# EAGLE library part TEN5D (library Zoli2_2015-01-28)
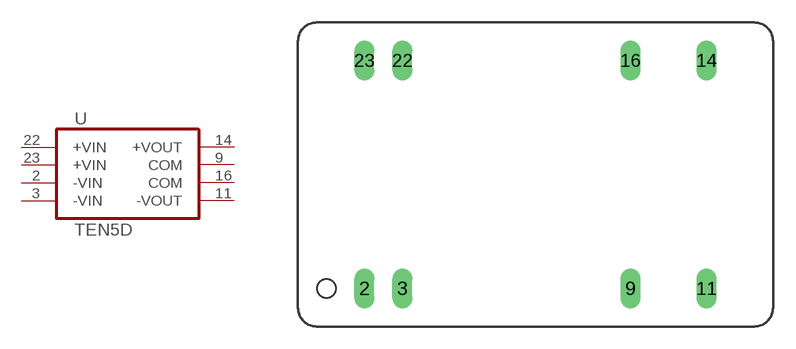
[diagram p55: symbol with the pads of TEN5; footprint TEN5]

Designator prefix -

## TEN5D  [TEN5]
2  -VIN  nc
3  -VIN  nc
9  COM  nc
11  -VOUT  pwr
14  +VOUT  pwr
16  COM  nc
22  +VIN  in
23  +VIN  pas

## Footprint TEN5 (pad centres in mm)
drill 0.813 long: 2 -11.43,-7.62; 3 -8.89,-7.62; 9 6.35,-7.62; 11 11.43,-7.62; 14 11.43,7.62; 16 6.35,7.62; 22 -8.89,7.62; 23 -11.43,7.62